# Altium footprint library BM02B-SRSS-TB_LF__SN_.PcbLib: 1 footprints
Each footprint in its own frame and in the unit in brackets; x right, y up, seen from the top. Pads: shape width x height; smd on the part's side, far side on the other; paste and mask are expansions set on the pad; w line width, h text height; cw(c..) or ccw(c..) is an arc to the next point about the centre after c.
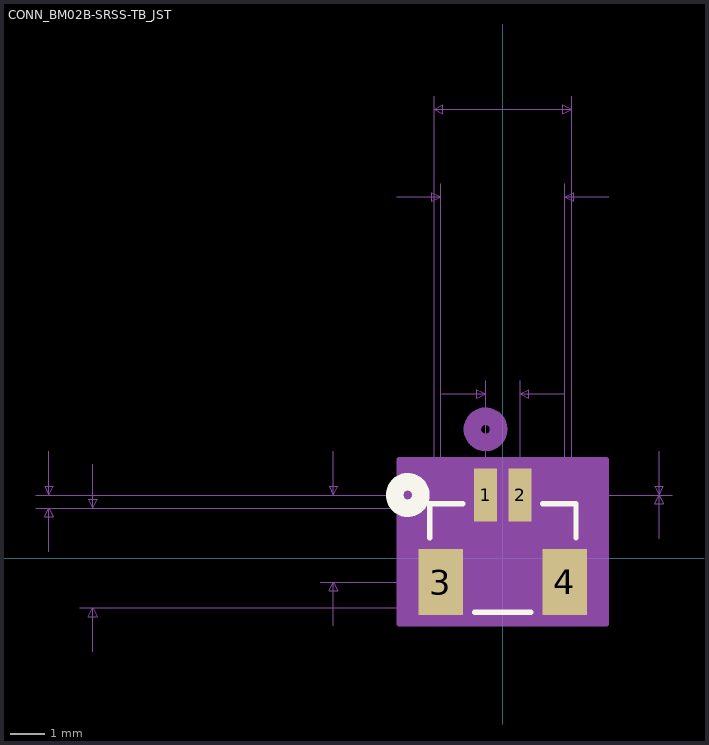
[diagram p0: the footprint, top view; thin cyan lines are the x and y axes]

## CONN_BM02B-SRSS-TB_JST [mil]
pads (4):
  rect 26x61 smd paste+0 mask+0: 1(-19.68,72.04) 2(19.68,72.04)
  rect 51x75 smd: 3(-70.87,-27.37) 4(70.87,-27.37)
Top Overlay:
  circle w20: c-108.5,72.04 r15
  lines w6: -83.5,23.23 -83.5,62 -45.78,62 ; -32.27,-62 32.27,-62 ; 45.78,62 83.5,62 83.5,23.23
Bottom Overlay:
  circle w20: c-108.5,72.04 r15
Mechanical 5:
  region: -93.5,72 93.5,72 93.5,-72 -93.5,-72
Mechanical 7:
  lines w1: -533.37,57 -78.5,57 ; -533.37,72.04 0,72.04 -208.37,72.04 ; -518.37,7 -518.37,57 ; -518.37,122.04 -518.37,72.04 ; -483.37,-57 -78.5,-57 ; -483.37,57 -78.5,57 ; -468.37,-107 -468.37,-57 ; -468.37,107 -468.37,57 ; -208.37,-27.37 70.87,-27.37 70.87,427.54 ; -193.37,-77.37 -193.37,-27.37 ; -193.37,122.04 -193.37,72.04 ; -120.87,412.54 -70.87,412.54 ; -78.5,527.54 -78.5,57 ; -70.87,-27.37 -70.87,427.54 ; -69.69,187.54 -19.68,187.54 ; -19.68,202.54 -19.68,72.04 ; 19.68,72.04 19.68,202.54 ; 69.69,187.54 19.68,187.54 ; 78.5,57 78.5,527.54 ; 120.87,412.54 70.87,412.54 ; 178.5,22.04 178.5,72.04 ; 178.5,122.04 178.5,72.04 ; -518.37,57 -523.37,47 -513.37,47 -518.37,57 ; -518.37,72.04 -523.37,82.04 -513.37,82.04 -518.37,72.04 ; -468.37,-57 -473.37,-67 -463.37,-67 -468.37,-57 ; -468.37,57 -473.37,67 -463.37,67 -468.37,57 ; -193.37,-27.37 -198.37,-37.37 -188.37,-37.37 -193.37,-27.37 ; -193.37,72.04 -198.37,82.04 -188.37,82.04 -193.37,72.04 ; -78.5,512.54 78.5,512.54 ; -78.5,512.54 -68.5,517.54 -68.5,507.54 -78.5,512.54 ; -70.87,412.54 -80.87,417.54 -80.87,407.54 -70.87,412.54 ; -19.68,72.04 193.5,72.04 -19.68,72.04 ; -19.68,187.54 -29.68,192.54 -29.68,182.54 -19.68,187.54 ; 19.68,187.54 29.68,192.54 29.68,182.54 19.68,187.54 ; 70.87,412.54 80.87,417.54 80.87,407.54 70.87,412.54 ; 78.5,512.54 68.5,517.54 68.5,507.54 78.5,512.54 ; 178.5,72.04 173.5,82.04 183.5,82.04 178.5,72.04 ; 178.5,72.04 173.5,62.04 183.5,62.04 178.5,72.04
  text "Default Padstyle: RX26Y61D0T" at -350,-217 h50
  text "1st Mtg Padstyle: RX75Y51D0T" at -350,-292 h50
  text "2nd Mtg Padstyle: EX70Y70D70P" at -362.5,-367 h50
  text "3rd Mtg Padstyle: EX70Y70D70P" at -362.5,-442 h50
  text "Left Mtg Padstyle: EX60Y60D30P" at -375,-517 h50
  text "Right Mtg Padstyle: EX60Y60D30P" at -387.5,-592 h50
  text "Alt Padstyle 1: OX60Y90D30P" at -337.5,-667 h50
  text "Alt Padstyle 2: OX90Y60D30P" at -337.5,-742 h50
  text "0.039in/1mm" at -98.28,207.54 h25
  text "0.142in/3.6mm" at -81.25,432.54 h25
  text "0.157in/3.988mm" at -93.75,532.54 h25
  text "0in/0mm" at 198.5,59.54 h25
  text "-0.099in/-2.525mm" at -425.87,9.83 h25
  text "-0.015in/-0.382mm" at -750.87,52.02 h25
  text "0.114in/2.896mm" at -675.87,-12.5 h25
Mechanical 13:
  circle w20: c-19.68,147.04 r15
  lines w1: -78.5,-57 78.5,-57 78.5,57 -78.5,57 -78.5,-57
Mechanical 15:
  region: 118.37,112.54 -118.37,112.54 -118.37,-75 118.37,-75
  lines w6: -118.37,-75 -118.37,112.54 118.37,112.54 118.37,-75 -118.37,-75
3D body: height 10, standoff 0, extent 0,0 10,10